# EAGLE library part LM3102MHX/NOPB (library FA3D_lib)
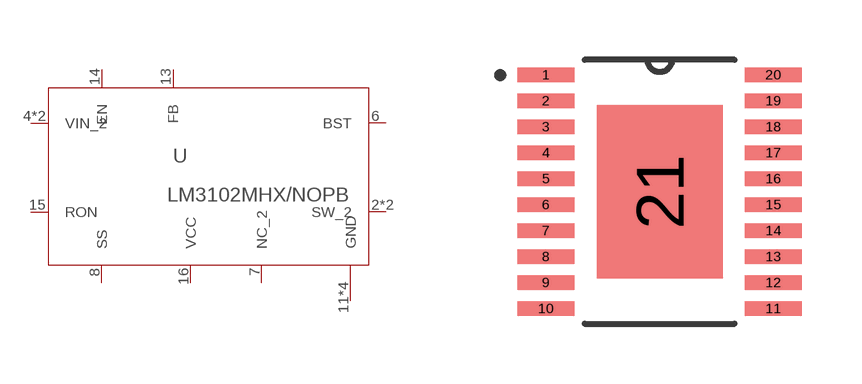
[diagram p5: symbol with the pads of MXA20A; footprint MXA20A]

Designator prefix -

## LM3102MHX/NOPB (DATASHEETURL: httpwww.ti.comproductlm3102; FREQUENCY: 1000000.0; IMAX: 2.5; MANUFACTURER_NAME: Texas Instruments; MANUFACTURER_PART_NUMBER: LM3102MHXNOPB; MKTG_PACKAGE: NA; NSID: LM3102MHNOPB; PACKAGE: NA; VENDOR: Texas Instruments)  [MXA20A]
2  SW_2  pas
3  SW_2  pas
4  VIN_2  pas
5  VIN_2  pas
6  BST  pas
7  NC_2  pas
8  SS  pas
11  GND
13  FB  pas
14  EN  pas
15  RON  pas
16  VCC  pas
17  GND
18  GND
21  GND

## Footprint MXA20A (pad centres in mm)
smd 1.422 x 0.356: 1 -2.845,2.925; 2 -2.845,2.275; 3 -2.845,1.625; 4 -2.845,0.975; 5 -2.845,0.325; 6 -2.845,-0.325; 7 -2.845,-0.975; 8 -2.845,-1.625; 9 -2.845,-2.275; 10 -2.845,-2.925; 11 2.845,-2.925; 12 2.845,-2.275; 13 2.845,-1.625; 14 2.845,-0.975; 15 2.845,-0.325; 16 2.845,0.325; 17 2.845,0.975; 18 2.845,1.625; 19 2.845,2.275; 20 2.845,2.925
smd 3.15 x 4.343: 21 0,0